# EAGLE library part ESP-12F (library we-chip)
AI-Thinker ESP-12F ESP8266 WiFi/WLAN Module
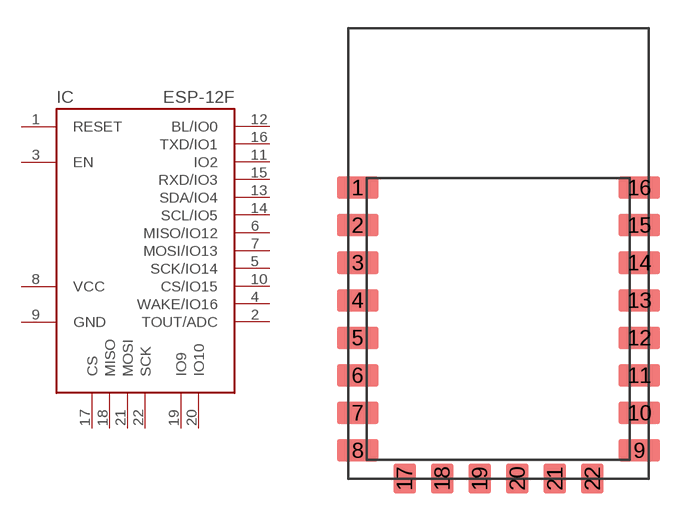
[diagram p25: symbol with the pads of ESP-12F; footprint ESP-12F]

Designator prefix IC

## ESP-12F  [ESP-12F]
1  RESET
2  TOUT/ADC
3  EN
4  WAKE/IO16
5  SCK/IO14
6  MISO/IO12
7  MOSI/IO13
8  VCC  pwr
9  GND  pwr
10  CS/IO15
11  IO2
12  BL/IO0
13  SDA/IO4
14  SCL/IO5
15  RXD/IO3
16  TXD/IO1
17  CS
18  MISO
19  IO9
20  IO10
21  MOSI
22  SCK

## Footprint ESP-12F (pad centres in mm)
smd 2.2 x 1.2: 1 -7.5,4.5; 2 -7.5,2.5; 3 -7.5,0.5; 4 -7.5,-1.5; 5 -7.5,-3.5; 6 -7.5,-5.5; 7 -7.5,-7.5; 8 -7.5,-9.5; 9 7.5,-9.5; 10 7.5,-7.5; 11 7.5,-5.5; 12 7.5,-3.5; 13 7.5,-1.5; 14 7.5,0.5; 15 7.5,2.5; 16 7.5,4.5
smd 1.2 x 1.6: 17 -5,-11; 18 -3,-11; 19 -1,-11; 20 1,-11; 21 3,-11; 22 5,-11